# EAGLE library part HDS404-1 (library Switch)
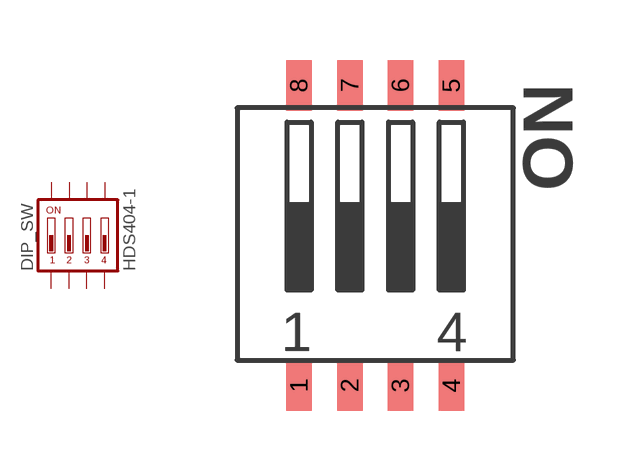
[diagram p0: symbol with the pads of HDS404; footprint HDS404]

Designator prefix DIP_SW

## HDS404-1  [HDS404]
1  1  pas
2  2  pas
3  3  pas
4  4  pas
5  5  pas
6  6  pas
7  7  pas
8  8  pas

## Footprint HDS404 (pad centres in mm)
smd 0.635 x 1.27: 1 -1.905,-3.785; 2 -0.635,-3.785; 3 0.635,-3.785; 4 1.905,-3.785; 5 1.905,3.715; 6 0.635,3.715; 7 -0.635,3.715; 8 -1.905,3.715